# EAGLE library part LM2663 (library kamiki)
Switched Capaciter type, Voltage converter
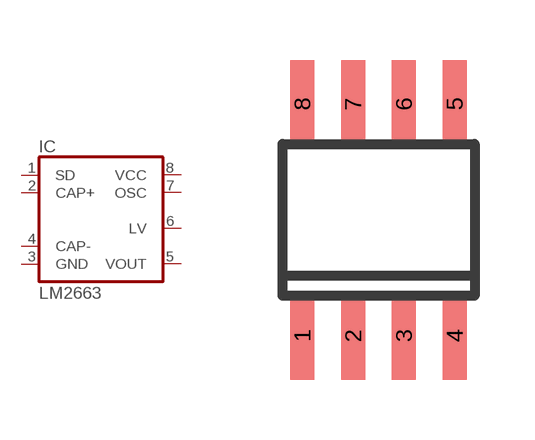
[diagram p18: symbol with the pads of SO08; footprint SO08]

Designator prefix IC

## LM2663  [SO08]
1  SD  in
2  CAP+  pas
3  GND  pwr
4  CAP-  pas
5  VOUT  out
6  LV  in
7  OSC  pas
8  VCC  pwr

## Footprint SO08 (pad centres in mm)
Small Outline Package 8
smd 0.6 x 2.2: 1 -1.905,-2.9; 2 -0.635,-2.9; 3 0.635,-2.9; 4 1.905,-2.9; 5 1.905,2.9; 6 0.635,2.9; 7 -0.635,2.9; 8 -1.905,2.9